# Altium schematic symbol library Circuits.SCHLIB: 8 symbols
Pins are listed as number, name and electrical type; pins without a type are passive.

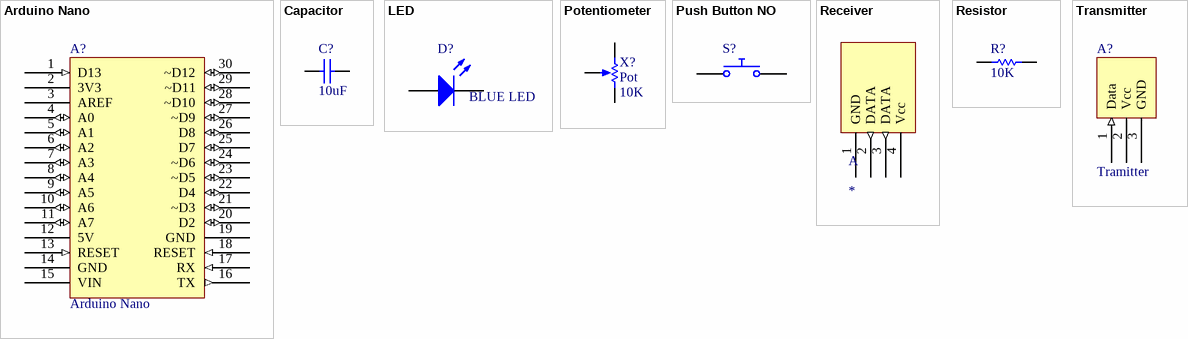
[diagram p0: symbols Arduino Nano to Transmitter]

## Arduino Nano
designator A?
Arduino Nano Microcontroller
pins: 1 D13 (in), 2 3V3 (power), 3 AREF (power), 4 A0 (io), 5 A1 (io), 6 A2 (io), 7 A3 (io), 8 A4 (io), 9 A5 (io), 10 A6 (io), 11 A7 (io), 12 5V (power), 13 RESET (in), 14 GND (power), 15 VIN (power), 16 TX (out), 17 RX (in), 18 RESET (in), 19 GND (power), 20 D2 (io), 21 ~D3 (io), 22 D4 (io), 23 ~D5 (io), 24 ~D6 (io), 25 D7 (io), 26 D8 (io), 27 ~D9 (io), 28 ~D10 (io), 29 ~D11 (io), 30 ~D12 (io)

## Capacitor
designator C?  value 10uF  (hidden comment: Capacitor)
SimulationGenericComponent: True
simulation model C_Capacitor_Default (CAP)
pins: 1, 2

## LED
designator D?, comment BLUE LED
Light-Emitting Diode; AF: 1; BV: 0; BV_MAX: 1e99; EG: 1.11; FC: 0.5; IBV: 0.001; IS: 1e-14; MJSW: 0.33; NTUN: 30; TNOM: 27; XTI: 3; SimulationGenericComponent: True; CJO: 0; CJP: 0; CTA: 0; CTP: 0; FCS: 0.5; FV_MAX: 1e99; IKF: 0; IKR: 0; ISR: 1e-14; JSW: 0; JTUN: 0; JTUNSW: 0; KEG: 1; KF: 0; LEVEL: 1; N: 1; NBV: 1; NR: 1; NS: 1; PHP: 1; RS: 0; TCV: 0; TLEV: 0; TLEVC: 0; TM1: 0; TM2: 0; TPB: 0; TPHP: 0; TRS: 0; TRS2: 0; TT: 0; TTT1: 0; TTT2: 0; VJ: 1; XTITUN: 3
simulation model diode (Diodes)
pins: 1 A, 2 K

## Potentiometer
designator X?, comment Pot  value 10K
Potentiometer; position: 0.5; SimulationGenericComponent: True
simulation model POT (POTENTIOMETER)
pins: 1 TOP, 2 BOT, 3 TAP

## Push Button NO
designator S?, comment Push Button Normally Opened  (value not drawn)
closed: 0; Rclosed: 1m; Ropen: 1Meg; SimulationGenericComponent: True
simulation model PUSH_BUTTON_NO (Switches & Buttons)
pins: 1, 2

## Receiver
designator A
433MHz RF Receiver Module
pins: 1 GND (power), 2 DATA (out), 3 DATA (out), 4 Vcc (power)

## Resistor
designator R?, comment 10K
Resistor; TC1: 0; SimulationGenericComponent: True; TC2: 0; Value: 10K
simulation model R_Resistor_Default (Model Description)
pins: 1, 2

## Transmitter
designator A?, comment Tramitter
433MHz RF Transmitter Module
pins: 1 Data (in), 2 Vcc (power), 3 GND (power)